# Altium integrated library RC0603FR-075K1L.IntLib: 1 symbol
Pins are listed as number, name and electrical type; pins without a type are passive.

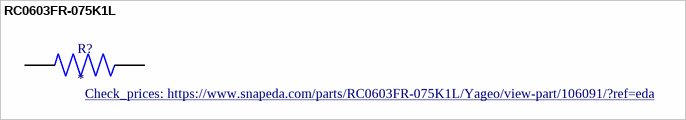
[diagram p0: symbol RC0603FR-075K1L]

## RC0603FR-075K1L
designator R?
5.1 kOhms Â±1% 0.1W, 1/10W Chip Resistor 0603 (1608 Metric) Thick Film; MP: RC0603FR-075K1L; MF: Yageo; Value: *; Digi-Key_Part_Number: 311-5.10KHRCT-ND; Purchase-URL: https://pricing.snapeda.com/search/part/RC0603FR-075K1L/?ref=eda; SnapEDA_Link: https://www.snapeda.com/parts/RC0603FR-075K1L/Yageo/view-part/106091/?ref=snap; Package: 0603 Yageo; Check_prices: https://www.snapeda.com/parts/RC0603FR-075K1L/Yageo/view-part/106091/?ref=eda
footprint RESC1607X60N
pins: 1, 2